# EAGLE library part CON-HARTING-ML_ML6 (library PushButtonAction_4017_4)
HARTING
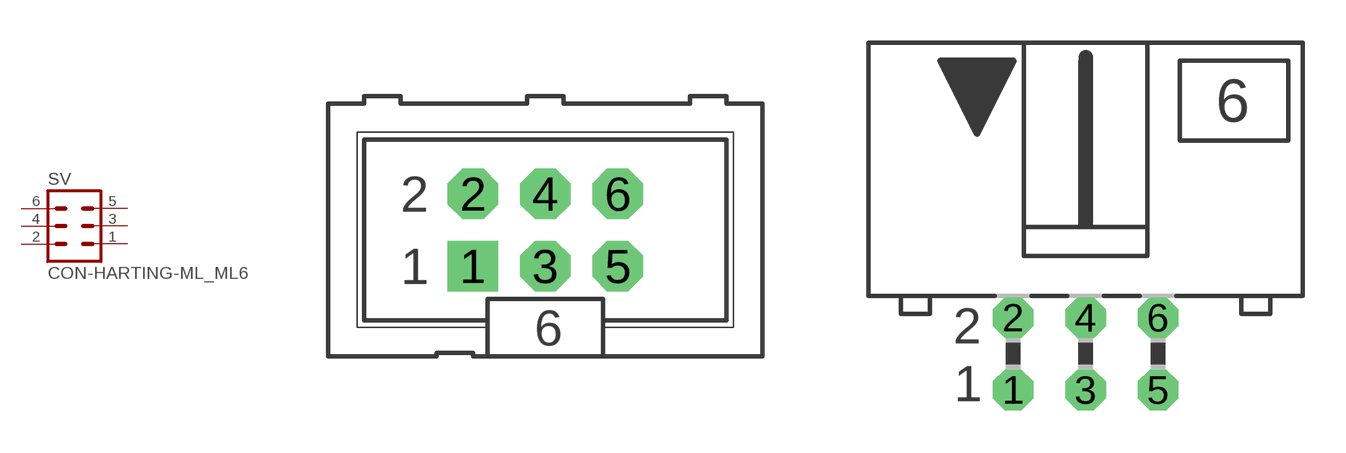
[diagram p0: symbol with the pads of CON-HARTING-ML_ML6; footprints CON-HARTING-ML_ML6, CON-HARTING-ML_ML6L]

Designator prefix SV

## CON-HARTING-ML_ML6 (OC_FARNELL: unknown; OC_NEWARK: unknown)  [CON-HARTING-ML_ML6]
1  1  pas
2  2  pas
3  3  pas
4  4  pas
5  5  pas
6  6  pas

## CON-HARTING-ML_ML6L (OC_FARNELL: unknown; OC_NEWARK: unknown)  [CON-HARTING-ML_ML6L]
Pads as for CON-HARTING-ML_ML6

## CON-HARTING-ML_ML6BKL10120958  [BKL10120958_MIRROR]
Pads as for CON-HARTING-ML_ML6

## Footprint CON-HARTING-ML_ML6 (pad centres in mm)
HARTING
drill 0.914 pad 1.778 square: 1 -2.54,-1.27
drill 0.914 pad 1.778 octagon: 2 -2.54,1.27; 3 0,-1.27; 4 0,1.27; 5 2.54,-1.27; 6 2.54,1.27

## Footprint CON-HARTING-ML_ML6L (pad centres in mm)
HARTING
drill 0.914 octagon: 1 -2.54,-1.27; 2 -2.54,1.27; 3 0,-1.27; 4 0,1.27; 5 2.54,-1.27; 6 2.54,1.27

## Footprint BKL10120958_MIRROR (pad centres in mm)
HARTING
drill 0.914 pad 1.778 square: 1 -2.54,1.27
drill 0.914 pad 1.778 octagon: 2 -2.54,-1.27; 3 0,1.27; 4 0,-1.27; 5 2.54,1.27; 6 2.54,-1.27